# Altium integrated library WE-MLS_rev15a.intlib: 6 symbols
Pins are listed as number, name and electrical type; pins without a type are passive.

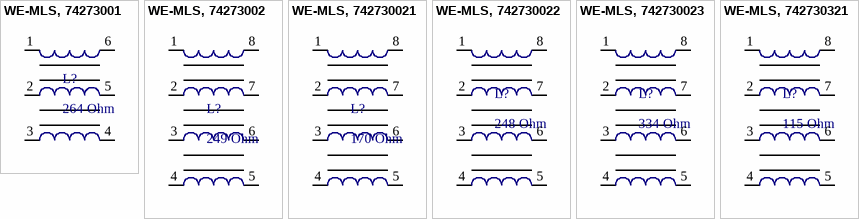
[diagram p0: symbols WE-MLS, 74273001 to WE-MLS, 742730321]

## WE-MLS, 74273001
designator L?, comment 264 Ohm
Multiline EMI Suppression Ferrite WE-MLS, Z= 264 Ohm; partNo: 74273001; Manufacturer: Würth Elektronik eiSos GmbH; Impedance at 100MHz: 264 Ohm; ComponentLink1Description: Manufacturer; ComponentLink1URL: http://www.we-online.de; Created by: Christin Zierenner; Created Date: May 2009; ComponentLink2Description: Datasheet; ComponentLink2URL: http://www.we-online.de/katalog/media/pdf/74273001.pdf
footprint WE-MLS, 74273001 (Inductor, 6-Leads, Body 7,62x5,08mm)
pins: 1, 2, 3, 4, 5, 6

## WE-MLS, 74273002
designator L?, comment 249 Ohm
Multiline EMI Suppression Ferrite WE-MLS, Z= 249 Ohm; partNo: 74273002; Manufacturer: Würth Elektronik eiSos GmbH; Impedance at 100MHz: 249 Ohm; ComponentLink1Description: Manufacturer; ComponentLink1URL: http://www.we-online.de; Created by: Christin Zierenner; Created Date: May 2009; ComponentLink2Description: Datasheet; ComponentLink2URL: http://www.we-online.de/katalog/media/pdf/74273002.pdf
footprint WE-MLS, 74273002 (Inductor, 8-Leads, Body 10,88x5,49mm)
pins: 1, 2, 3, 4, 5, 6, 7, 8

## WE-MLS, 742730021
designator L?, comment 170 Ohm
Multiline EMI Suppression Ferrite WE-MLS, Z= 170 Ohm; partNo: 742730021; Manufacturer: Würth Elektronik eiSos GmbH; Impedance at 100MHz: 170 Ohm; ComponentLink1Description: Manufacturer; ComponentLink1URL: http://www.we-online.de; Created by: Christin Zierenner; Created Date: May 2009; ComponentLink2Description: Datasheet; ComponentLink2URL: http://www.we-online.de/katalog/media/pdf/742730021.pdf
footprint WE-MLS, 742730021 (Inductor, 8-Leads, Body 11,2x11,2mm)
pins: 1, 2, 3, 4, 5, 6, 7, 8

## WE-MLS, 742730022
designator L?, comment 248 Ohm
Multiline EMI Suppression Ferrite WE-MLS, Z= 248 Ohm; partNo: 742730022; Manufacturer: Würth Elektronik eiSos GmbH; Impedance at 100MHz: 248 Ohm; ComponentLink1Description: Manufacturer; ComponentLink1URL: http://www.we-online.de; Created by: Christin Zierenner; Created Date: May 2009; ComponentLink2Description: Datasheet; ComponentLink2URL: http://www.we-online.de/katalog/media/pdf/742730022.pdf
footprint WE-MLS, 742730022 (Inductor, 8-Leads, Body 11,2x11,2mm)
pins: 1, 2, 3, 4, 5, 6, 7, 8

## WE-MLS, 742730023
designator L?, comment 334 Ohm
Multiline EMI Suppression Ferrite WE-MLS, Z= 334 Ohm; partNo: 742730023; Manufacturer: Würth Elektronik eiSos GmbH; Impedance at 100MHz: 334 Ohm; ComponentLink1Description: Manufacturer; ComponentLink1URL: http://www.we-online.de; Created by: Christin Zierenner; Created Date: May 2009; ComponentLink2Description: Datasheet; ComponentLink2URL: http://www.we-online.de/katalog/media/pdf/742730023.pdf
footprint WE-MLS, 742730023 (Inductor, 8-Leads, Body 11,2x11,2mm)
pins: 1, 2, 3, 4, 5, 6, 7, 8

## WE-MLS, 742730321
designator L?, comment 115 Ohm
Multiline EMI Suppression Ferrite WE-MLS, Z= 115 Ohm; partNo: 742730321; Manufacturer: Würth Elektronik eiSos GmbH; Impedance at 100MHz: 115 Ohm; ComponentLink1Description: Manufacturer; ComponentLink1URL: http://www.we-online.de; Created by: Christin Zierenner; Created Date: March 2010; ComponentLink2Description: Datasheet; ComponentLink2URL: http://www.we-online.de/katalog/media/pdf/742730321.pdf
footprint WE-MLS, 742730023 (Inductor, 8-Leads, Body 11,2x11,2mm)
pins: 1, 2, 3, 4, 5, 6, 7, 8